# Altium schematic symbol library Connector_Mini50_8.SchLib: 1 symbol
Pins are listed as number, name and electrical type; pins without a type are passive.

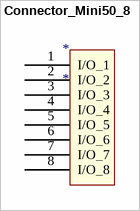
[diagram p0: symbol Connector_Mini50_8]

## Connector_Mini50_8
designator *
pins: 1 I/O_1 (power), 2 I/O_2 (power), 3 I/O_3 (power), 4 I/O_4 (power), 5 I/O_5 (power), 6 I/O_6 (power), 7 I/O_7 (power), 8 I/O_8 (power)